# Altium footprint library YaoPCB.PCBLIB: 415 footprints (part 3 of 26)
Each footprint in its own frame and in the unit in brackets; x right, y up, seen from the top. Pads: shape width x height; smd on the part's side, far side on the other; paste and mask are expansions set on the pad; w line width, h text height; cw(c..) or ccw(c..) is an arc to the next point about the centre after c.
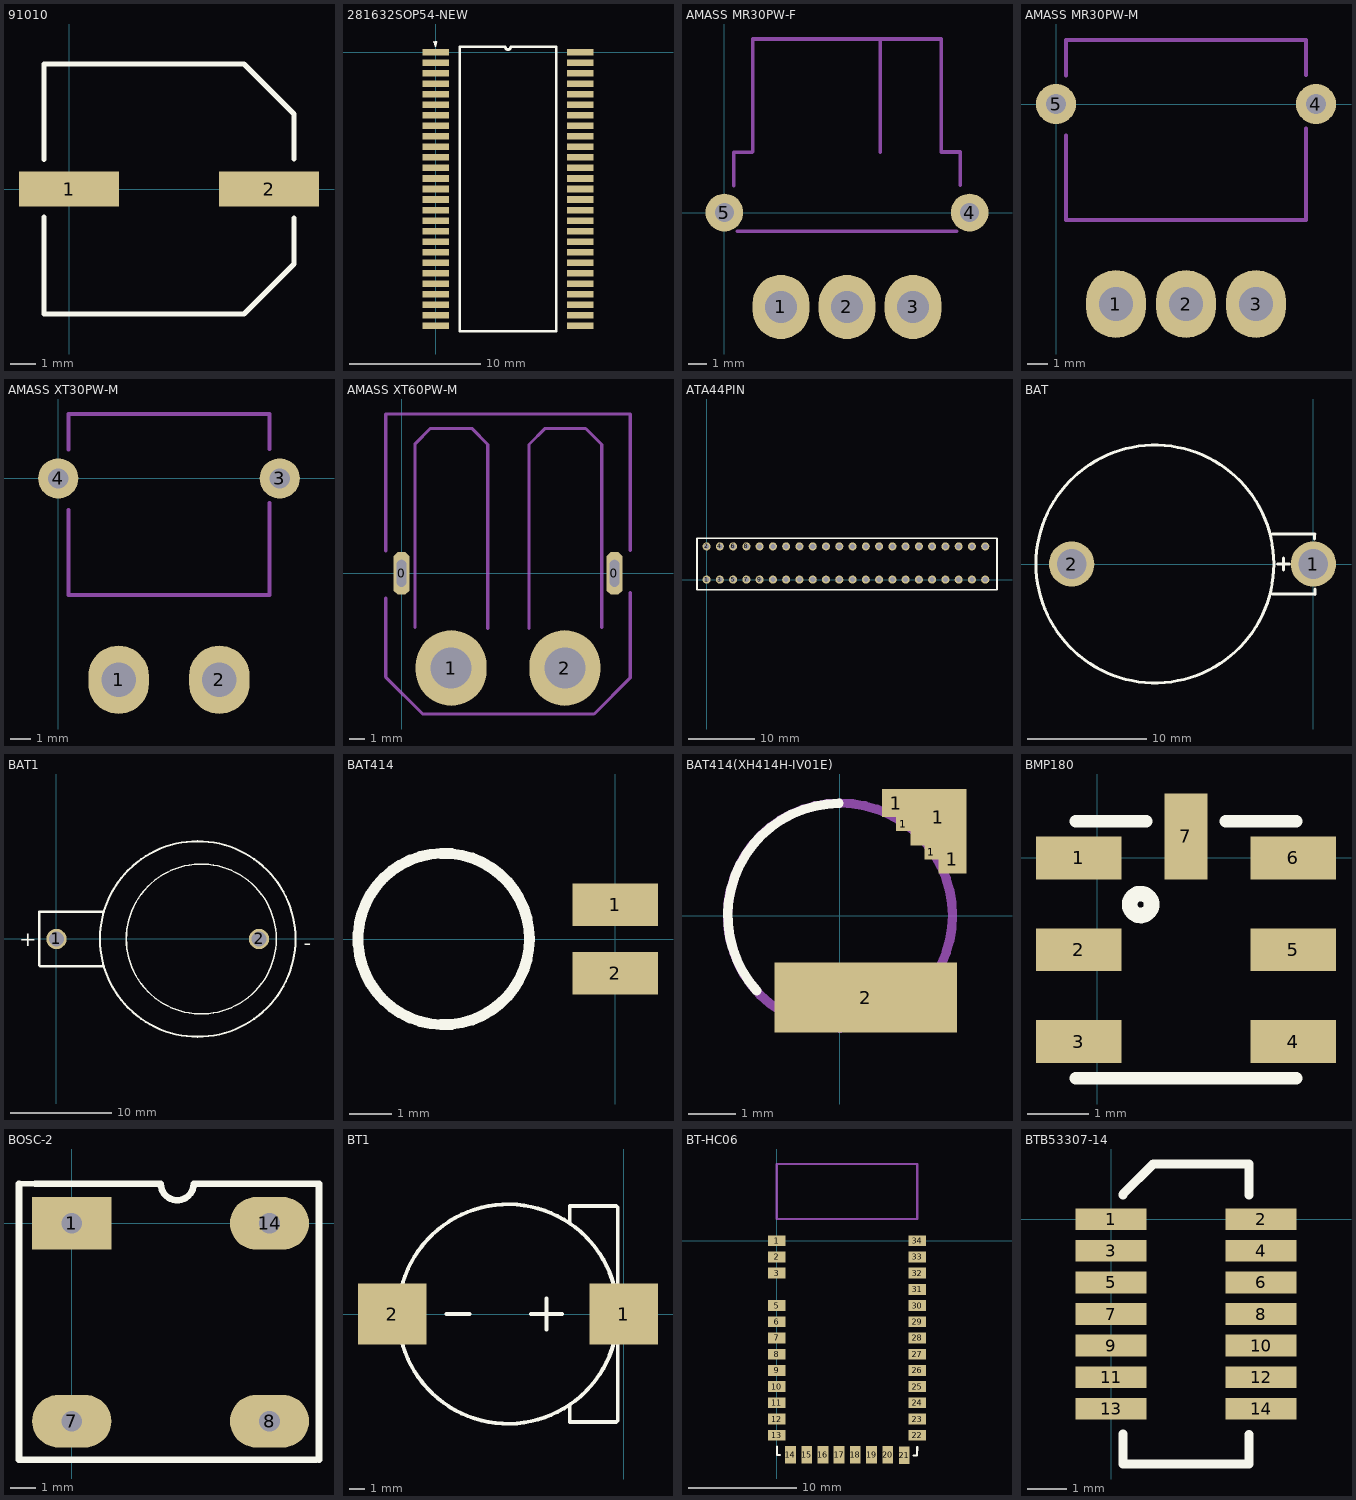
[diagram p2: the footprints below, top view; thin cyan lines are the x and y axes]

## 91010 [mm]
pads (2):
  rect 4x1.4 smd: 1(0,0) 2(8,0)
TopOverlay:
  lines w0.2: -1,-1.127 -1,-5 7,-5 9,-3 9,-1.151 ; -1,1.184 -1,5 7,5 9,3 9,1.202

## 281632SOP54-NEW [mm]
pads (54):
  rect 2x0.5 smd: 1(0,0) 2(0,-0.8) 3(0,-1.6) 4(0,-2.4) 5(0,-3.2) 6(0,-4) 7(0,-4.8) 8(0,-5.6) 9(0,-6.4) 10(0,-7.2) 11(0,-8) 12(0,-8.8) 13(0,-9.6) 14(0,-10.4) 15(0,-11.2) 16(0,-12) 17(0,-12.8) 18(0,-13.6) 19(0,-14.4) 20(0,-15.2) 21(0,-16) 22(0,-16.8) 23(0,-17.6) 24(0,-18.4) 25(0,-19.2) 26(0,-20) 27(0,-20.8) 28(11,-20.8) 29(11,-20) 30(11,-19.2) 31(11,-18.4) 32(11,-17.6) 33(11,-16.8) 34(11,-16) 35(11,-15.2) 36(11,-14.4) 37(11,-13.6) 38(11,-12.8) 39(11,-12) 40(11,-11.2) 41(11,-10.4) 42(11,-9.6) 43(11,-8.8) 44(11,-8) 45(11,-7.2) 46(11,-6.4) 47(11,-5.6) 48(11,-4.8) 49(11,-4) 50(11,-3.2) 51(11,-2.4) 52(11,-1.6) 53(11,-0.8) 54(11,0)
TopOverlay:
  lines w0.152: -0.106,0.79 -0.005,0.485 0.072,0.79 ; -0.005,0.612 -0.005,0.79
  lines w0.2: 1.835,-21.2 9.165,-21.2 9.165,0.4 5.7,0.4 cw(c5.5,0.4) 5.3,0.4 1.835,0.4 1.835,-21.2

## AMASS MR30PW-F [mm]
pads (5):
  oval 3x3.4 hole 1.7: 1(3,-5) 2(6.5,-5) 3(10,-5)
  round 2 hole 1: 4(13,0) 5(0,0)
Mechanical15:
  lines w0.2: 0.5,1.43 0.5,3.2 1.47,3.2 ; 0.7,-0.99 12.3,-0.99 ; 1.5,3.23 1.5,9.2 11.5,9.2 11.5,3.21 12.5,3.21 12.5,1.46 ; 8.26,3.21 8.26,9.16

## AMASS MR30PW-M [mm]
pads (5):
  oval 3x3.4 hole 1.7: 1(3,-10) 2(6.5,-10) 3(10,-10)
  round 2 hole 1: 4(13,0) 5(0,0)
Mechanical15:
  lines w0.2: 0.5,-1.57 0.5,-5.8 12.5,-5.8 12.5,-1.22 ; 0.5,1.43 0.5,3.2 12.5,3.2 12.5,1.46

## AMASS XT30PW-M [mm]
pads (4):
  oval 3x3.4 hole 1.7: 1(3,-10) 2(8,-10)
  round 2 hole 1: 3(11,0) 4(0,0)
Mechanical15:
  lines w0.2: 0.5,-1.57 0.5,-5.8 10.5,-5.8 10.5,-1.22 ; 0.5,1.43 0.5,3.2 10.5,3.2 10.5,1.46

## AMASS XT60PW-M [mm]
pads (4):
  oct 1x2.7 hole 0.6 slot 1.7 at 90 deg: 0(0,0) 0(13.5,0)
  oval 4.5x4.8 hole 2.6: 1(3.15,-6) 2(10.35,-6)
Mechanical15:
  lines w0.2: -1,-1.57 -1,-4 -1,-6.58 1.335,-8.915 12.205,-8.915 14.5,-6.62 14.5,-4 14.5,-1.22 ; -1,1.43 -1,10.1 14.5,10.1 14.5,1.46 ; 0.86,-3.43 0.86,8.21 1.84,9.19 4.45,9.19 5.47,8.17 5.47,-3.48 ; 8.08,-3.48 8.08,8.17 9.1,9.19 11.67,9.19 ; 11.71,9.15 12.69,8.17 12.69,-3.43

## ATA44PIN [mil]
pads (44):
  round 48 hole 30: 1(0,0) 2(0,196.85) 3(78.74,0) 4(78.74,196.85) 5(157.48,0) 6(157.48,196.85) 7(236.22,0) 8(236.22,196.85) 9(314.96,0) 10(314.96,196.85) 11(393.7,0) 12(393.7,196.85) 13(472.44,0) 14(472.44,196.85) 15(551.18,0) 16(551.18,196.85) 17(629.92,0) 18(629.92,196.85) 19(708.66,0) 20(708.66,196.85) 21(787.4,0) 22(787.4,196.85) 23(866.14,0) 24(866.14,196.85) 25(944.88,0) 26(944.88,196.85) 27(1023.62,0) 28(1023.62,196.85) 29(1102.36,0) 30(1102.36,196.85) 31(1181.1,0) 32(1181.1,196.85) 33(1259.84,0) 34(1259.84,196.85) 35(1338.58,0) 36(1338.58,196.85) 37(1417.32,0) 38(1417.32,196.85) 39(1496.06,0) 40(1496.06,196.85) 41(1574.8,0) 42(1574.8,196.85) 43(1653.54,0) 44(1653.54,196.85)
TopOverlay:
  lines w10: -56.7,-60.61 1723.3,-60.61 1723.3,246.39 -56.7,246.39 -56.7,-60.61

## BAT [mm]
pads (2):
  round 3.81 hole 2.5: 1(0,0) 2(-20.32,0)
TopOverlay:
  circle w0.254: c-13.32,0 r10
  lines w0.254: -3.433,-2.54 0.123,-2.54 ; -3.433,2.54 0.123,2.54 ; -3.017,0 -2.001,0 ; -2.509,-0.508 -2.509,0.508 ; 0.1,2.099 0.1,2.499 ; 0.125,-2.549 0.125,-2.099

## BAT1 [mm]
pads (2):
  round 2 hole 1.5: 1(0,0) 2(20,0)
TopOverlay:
  circle w0.203: c13.945,0 r9.655
  circle w0.152: c14.3,0 r7.4
  lines w0.254: 4.5,2.7 -1.7,2.7 -1.7,-2.6 -1.6,-2.7 4.6,-2.7
  text "+" at -3.7,-0.7 h1.52
  text "-" at 24.4,-1.1 h1.52

## BAT414 [mm]
pads (2):
  rect 2x1 smd: 1(0,0.8) 2(0,-0.8)
TopOverlay:
  circle w0.254: c-4,0 r2

## BAT414(XH414H-IV01E) [mm]
pads (6):
  rect 0.6x0.6 smd: 1(1.2,2.4) 1(2.4,1.2)
  rect 0.3x0.3 smd: 1(1.35,1.95) 1(1.95,1.35)
  rect 1.2x1.2 smd: 1(2.1,2.1)
  rect 3.9x1.5 smd: 2(0.55,-1.75)
TopOverlay:
  lines w0.2: -1.776,-1.604 cw(c0,0) -0.02,2.393
Mechanical15:
  circle w0.2: c0,0 r2.4

## BMP180 [mm]
pads (7):
  rect 1.4x0.7 smd: 1(-0.3,0) 2(-0.3,-1.5) 3(-0.3,-3) 4(3.2,-3) 5(3.2,-1.5) 6(3.2,0)
  rect 0.7x1.4 smd: 7(1.45,0.35)
TopOverlay:
  circle w0.254: c0.709,-0.762 r0.18
  lines w0.2: -0.35,-3.6 3.25,-3.6 ; -0.35,0.6 0.8,0.6 ; 2.1,0.6 3.25,0.6

## BOSC-2 [mil]
pads (4):
  rect 120x80 hole 31.5: 1(0,0)
  oval 120x80 hole 31.5: 7(0,-300) 8(300,-300) 14(300,0)
TopOverlay:
  lines w8: -80,60 -55,60
  lines w10: -80,60 -80,-358.82 -60,-358.82 370,-358.82 ; -55,60 135,60 ccw(c160,60) 185,60 375,60 375,-358.82

## BT1 [mm]
pads (2):
  rect 4.5x4 smd: 1(0,0) 2(-15.24,0)
TopOverlay:
  circle w0.254: c-7.62,0 r7.22
  lines w0.254: -11.684,0 -10.16,0 ; -6.096,0 -4.064,0 ; -5.08,-1.016 -5.08,1.016 ; -3.556,-6.096 -3.556,-7.112 -0.508,-7.112 -0.4,-7.004 -0.4,0 -0.4,7.004 -0.508,7.112 -3.556,7.112 -3.556,6.096

## BT-HC06 [mm]
pads (34):
  rect 1.6x1 smd: 1(0,0) 2(0,-1.5) 3(0,-3) 5(0,-6) 6(0,-7.5) 7(0,-9) 8(0,-10.5) 9(0,-12) 10(0,-13.5) 11(0,-15) 12(0,-16.5) 13(0,-18) 22(13,-18) 23(13,-16.5) 24(13,-15) 25(13,-13.5) 26(13,-12) 27(13,-10.5) 28(13,-9) 29(13,-7.5) 30(13,-6) 31(13,-4.5) 32(13,-3) 33(13,-1.5) 34(13,0)
  rect 0x0 smd: 4(0,-4.5)
  rect 1x1.6 smd: 14(1.27,-19.8) 15(2.77,-19.8) 16(4.27,-19.8) 17(5.77,-19.8) 18(7.27,-19.8) 19(8.77,-19.8) 20(10.27,-19.8) 21(11.79,-19.86)
TopOverlay:
  lines w0.2: 0.01,-19.04 0.01,-19.82 0.3,-19.82 ; 12.68,-19.86 12.99,-19.86 12.994,-19.09
Mechanical15:
  lines w0.2: 0,2 0,7.1 13,7.1 13,2 0,2

## BTB53307-14 [mm]
pads (14):
  rect 1.8x0.55 smd: 1(0,0) 2(3.8,0) 3(0,-0.8) 4(3.8,-0.8) 5(0,-1.6) 6(3.8,-1.6) 7(0,-2.4) 8(3.8,-2.4) 9(0,-3.2) 10(3.8,-3.2) 11(0,-4) 12(3.8,-4) 13(0,-4.8) 14(3.8,-4.8)
TopOverlay:
  lines w0.23: 0.3,-5.44 0.3,-6.2 3.48,-6.2 ; 0.3,0.62 0.3,0.63 1.07,1.4 3.5,1.4 3.5,0.62 ; 3.5,-6.2 3.5,-5.45